# Altium schematic symbol library PCA9557.SchLib: 1 symbol
Pins are listed as number, name and electrical type; pins without a type are passive.

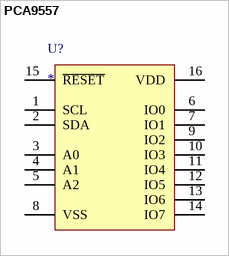
[diagram p0: symbol PCA9557]

## PCA9557
designator U?
8-bit I2C-bus and SMBus I/O port with reset
footprint TSSOP-16
pins: 1 SCL, 2 SDA, 3 A0, 4 A1, 5 A2, 6 IO0, 7 IO1, 8 VSS, 9 IO2, 10 IO3, 11 IO4, 12 IO5, 13 IO6, 14 IO7, 15 ~{RESET}, 16 VDD